# Altium footprint library LegacySMD-SODxx.PcbLib: 23 footprints (part 1 of 2)
Each footprint in its own frame and in the unit in brackets; x right, y up, seen from the top. Pads: shape width x height; smd on the part's side, far side on the other; paste and mask are expansions set on the pad; w line width, h text height; cw(c..) or ccw(c..) is an arc to the next point about the centre after c.
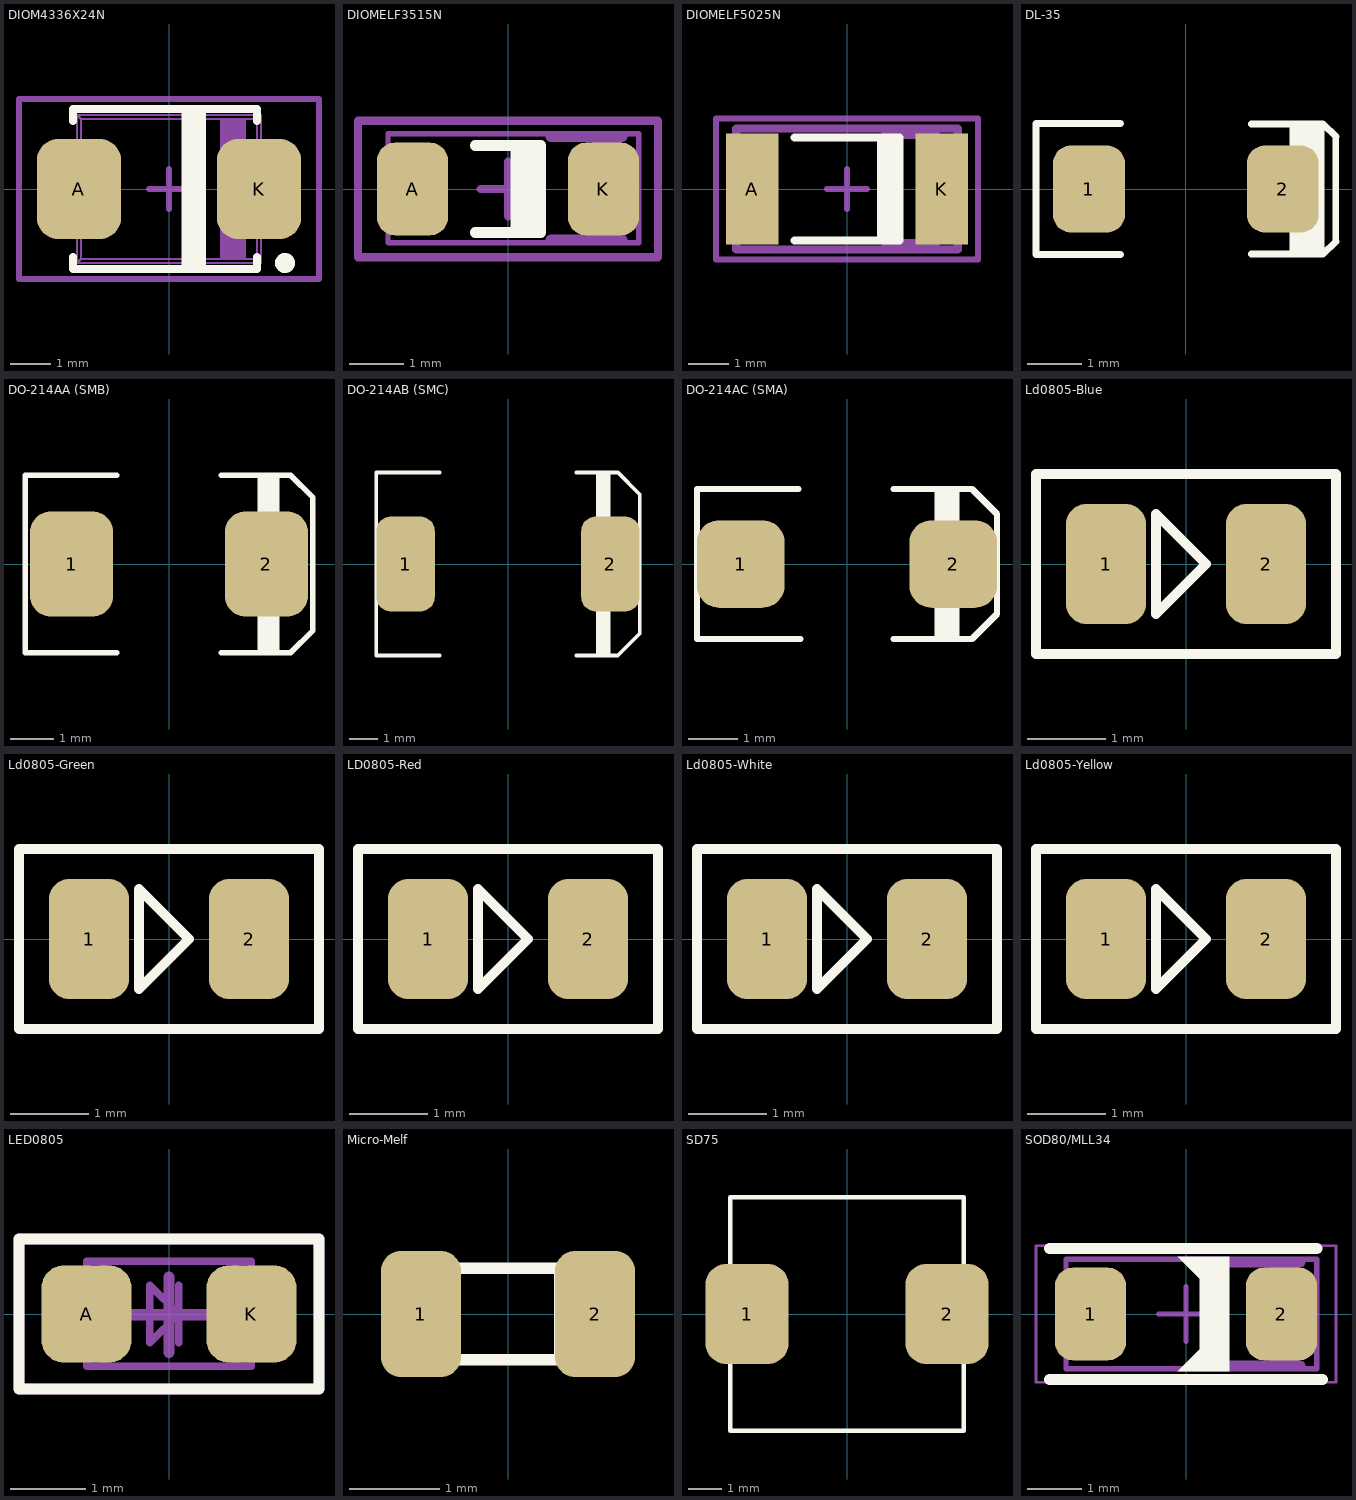
[diagram p0: the footprints below, top view; thin cyan lines are the x and y axes]

## DIOM4336X24N [mm] "Molded Diode, 2-Leads, Body 4,33x3,65mm, IPC Medium Density"
height 2.4
pads (2):
  rrect50% 2.1x2.5 smd: A(-2.25,0) K(2.25,0)
Top Overlay:
  circle w0.25: c2.9,-1.85 r0.125
  region: 0.93,2 0.311,2 0.311,-2 0.93,-2
  lines w0.2: -2.4,-1.7 -2.4,-2 2.2,-2 2.2,-1.7 ; -2.4,1.7 -2.4,2 2.2,2 2.2,1.7
Mechanical 3:
  text ".Designator / .Comment" at 2.159,0.762 h1.02
Mechanical 13:
  rectangle: 1.3,-1.75 1.9,1.75
  lines w0.05: -2.4,-1 -2.4,1 ; -2.4,-1 -2.3,-1 ; -2.4,-1 -2.65,-1 -2.65,1 -2.4,1 ; -2.4,1 -2.3,1 ; -2.3,-1.85 -2.3,-1 ; -2.3,-1.85 -2.2,-1.75 ; -2.3,-1.85 2.3,-1.85 ; -2.3,-1 -2.3,1 ; -2.3,1 -2.3,1.85 ; -2.3,1.85 2.3,1.85 ; -2.3,1.85 -2.2,1.75 ; -2.2,-1.75 -2.2,1.75 ; -2.2,-1.75 1.3,-1.75 ; -2.2,1.75 1.3,1.75 ; 1.3,-1.75 1.3,1.75 ; 1.3,-1.75 1.9,-1.75 ; 1.3,1.75 1.9,1.75 ; 1.9,-1.75 2.2,-1.75 ; 1.9,-1.75 1.9,1.75 ; 1.9,1.75 2.2,1.75 ; 2.2,-1.75 2.2,1.75 ; 2.2,-1.75 2.3,-1.85 ; 2.2,1.75 2.3,1.85 ; 2.3,-1.85 2.3,-1 ; 2.3,-1 2.4,-1 ; 2.3,-1 2.3,1 ; 2.3,1 2.4,1 ; 2.3,1 2.3,1.85 ; 2.4,-1 2.4,1 ; 2.4,-1 2.65,-1 2.65,1 2.4,1
Mechanical 15:
  lines w0.15: -0.5,0 0.5,0 ; 0,-0.5 0,0.5 ; -3.75,-2.25 -3.75,2.25 3.75,2.25 3.75,-2.25 -3.75,-2.25
3D body "SMB (DO-214AA).STEP": height 2.2, standoff -0.05, extent -2.65,-1.85 2.65,1.85

## DIOMELF3515N [mm] "MELF Diode, 2-Leads, Body 3,50x1,45mm, IPC Medium Density"
height 1.6
pads (2):
  rrect50% 1.3x1.7 smd: A(-1.75,0) K(1.75,0)
Top Overlay:
  rectangle: 0.05,-0.8 0.6,0.8
  lines w0.2: -0.6,-0.8 0.6,-0.8 0.6,0.8 -0.6,0.8
Mechanical 3:
  text ".Designator / .Comment" at -2.6,-0.9 h1.2
Mechanical 13:
  rectangle: 1.538,-0.839 2.088,0.961
  lines w0.1: -2.2,-0.989 -2.2,1.011 2.4,1.011 2.4,-0.989 -2.2,-0.989
  lines w0.2: 0.788,-0.939 2.088,-0.939 ; 0.788,0.961 2.088,0.961
Mechanical 15:
  lines w0.15: -0.5,0 0.5,0 ; 0,-0.5 0,0.5 ; -2.75,-1.25 -2.75,1.25 2.75,1.25 2.75,-1.25 -2.75,-1.25
3D body "Minimelf.step": height 1.4, standoff 0, extent -1.75,-0.711 1.75,0.689

## DIOMELF5025N [mm] "MELF Diode, 2-Leads, Body 5,00x2,50mm, IPC Medium Density"
height 2.6
pads (2):
  rect 1.3x2.75 smd: A(-2.35,0) K(2.35,0)
Top Overlay:
  rectangle: 0.75,-1.275 1.3,1.275
  lines w0.2: -1.3,-1.275 1.3,-1.275 1.3,1.275 -1.3,1.275
Mechanical 3:
  text ".Designator / .Comment" at -2.159,-0.762 h1.02
Mechanical 13:
  rectangle: 1.75,-1.5 2.3,1.5
  region: 1.75,-1.25 1,-1.25 0.75,-1.5 1.75,-1.5
  region: 1.75,1.25 1,1.25 0.75,1.5 1.75,1.5
  lines w0.2: -2.75,-1.5 -2.75,1.5 2.75,1.5 2.75,-1.5 -2.75,-1.5
Mechanical 15:
  lines w0.15: -0.5,0 0.5,0 ; 0,-0.5 0,0.5 ; -3.25,-1.75 -3.25,1.75 3.25,1.75 3.25,-1.75 -3.25,-1.75
3D body "MELF.STEP": height 2.5, standoff 0, extent -2.384,-1.25 2.616,1.25

## DL-35 [mil] "Metal Electrode Face (MELF) Diode; Body 3.5 x 1.5 mm (LxDia)"
height 59.06
pads (2):
  rrect50% 52x63 smd: 1(-70,0) 2(70,0)
Top Overlay:
  rectangle: 75,-45 100,45
  lines w5: -47.24,-47.24 -108.27,-47.24 -108.27,47.24 -47.24,47.24 ; 47.24,-46.85 99.04,-46.85 108.46,-38.02 ; 47.24,46.85 99.04,46.85 108.46,38.02 ; 108.27,-38.02 108.27,38.02
3D body "Minimelf.step": height 55.12, standoff 0, extent -69.8,-27.56 68,27.56

## DO-214AA (SMB) [mil] "DO-214-AA/SMB; 2 C-Bend Leads; Body 5.3 x 3.6 mm, inc. leads (LxW)"
height 100
pads (2):
  rrect50% 75x95 smd: 1(-88,0) 2(88,0)
Top Overlay:
  rectangle: 80,-80 100,80
  lines w5: -47.24,-80 -130,-80 -130,80 -47.24,80 ; 47.24,-80 110,-80 130,-60 130,60 110,80 47.24,80
Mechanical 3:
  text ".Designator / .Comment" at -85.01,-30.01 h40
3D body "SMB (DO-214AA).STEP": height 86.65, standoff -1.97, extent -104.34,-72.84 104.32,72.83

## DO-214AB (SMC) [mil] "DO-214-AB/SMC; 2 C-Bend Leads; Body 7.9 x 5.9 mm, inc. leads (LxW)"
height 101.18
pads (2):
  rrect50% 80x130 smd: 1(-140,0) 2(140,0)
Top Overlay:
  rectangle: 120,-125 140,125
  lines w5: -93.5,-125 -180,-125 -180,125 -93.5,125 ; 93.5,-125 150,-125 180,-95 180,94.89 150.22,125 93.5,125
Mechanical 3:
  text ".Designator / .Comment" at -85,-29.86 h40
3D body "SMC (DO214AB).STEP": height 94.53, standoff -1.97, extent -153.55,-116 153.54,116.28

## DO-214AC (SMA) [mil] "DO-214-AC/SMA; 2 C-Bend Leads; Body 5 x 2.7 mm, inc. leads (LxW)"
height 96.06
pads (2):
  rrect50% 70x70 smd: 1(-85,0) 2(85,0)
Top Overlay:
  rectangle: 70,-60 90,60
  lines w5: -38.7,60 -120,60 -120,-60 -37.4,-60 ; 37.4,-60 100,-60 120,-40 120,40 100,60 37.4,60
Mechanical 3:
  text ".Designator / .Comment" at -85,-30 h40
3D body "SMA (DO-214AC).STEP": height 84.69, standoff -1.97, extent -98.42,-53.15 98.43,53.15

## Ld0805-Blue [mil]
pads (2):
  rrect50% 40x60 smd: 1(-40,0) 2(40,0)
Top Overlay:
  lines w5: -75,-45 75,-45 75,45 -75,45 -75,-45 ; -15,-25 -15,25 10,0 -15,-25
3D body "Led 0805-Blue.STEP": height 43.31, standoff 0, extent -39.76,-24.96 39.77,24.25

## Ld0805-Green [mil]
pads (2):
  rrect50% 40x60 smd: 1(-40,0) 2(40,0)
Top Overlay:
  lines w5: -75,-45 75,-45 75,45 -75,45 -75,-45 ; -15,-25 -15,25 10,0 -15,-25
3D body "Led 0805-Green.STEP": height 43.31, standoff 0, extent -39.76,-24.96 39.77,24.25

## LD0805-Red [mil]
pads (2):
  rrect50% 40x60 smd: 1(-40,0) 2(40,0)
Top Overlay:
  lines w5: -75,-45 -75,45 75,45 75,-45 -75,-45 ; -15,-25 10,0 -15,25 -15,-25
3D body "Led 0805-Red.STEP": height 43.31, standoff 0, extent -39.76,-24.96 39.77,24.25

## Ld0805-White [mil]
pads (2):
  rrect50% 40x60 smd: 1(-40,0) 2(40,0)
Top Overlay:
  lines w5: -75,-45 75,-45 75,45 -75,45 -75,-45 ; -15,-25 -15,25 10,0 -15,-25
3D body "Led 0805-White.STEP": height 43.31, standoff 0, extent -39.76,-24.96 39.77,24.25

## Ld0805-Yellow [mil]
pads (2):
  rrect50% 40x60 smd: 1(-40,0) 2(40,0)
Top Overlay:
  lines w5: -75,-45 -75,45 75,45 75,-45 -75,-45 ; -15,-25 10,0 -15,25 -15,-25
3D body "Led 0805-Yellow.STEP": height 43.31, standoff 0, extent -39.76,-24.96 39.77,24.25

## LED0805 [mm] "Chip Resistor, 2-Leads, Body 2,00x1,25mm, IPC Medium Density"
height 0.7
pads (2):
  rrect50% 1.2x1.3 smd: A(-1.1,0) K(1.1,0)
Top Overlay:
  lines w0.15: -2,-1 2,-1 2,1 -2,1 -2,-1
Mechanical 3:
  text ".Designator / .Comment" at -1.25,-0.5 h0.6
Mechanical 13:
  lines w0.1: -0.871,-0.7 -0.871,0.7 ; 0.127,-0.381 0.127,0.381 ; 0.881,-0.7 0.881,0.7 ; -1.1,-0.7 1.1,-0.7 1.1,0.7 -1.1,0.7 -1.1,-0.7 ; -0.254,-0.381 0.127,0 -0.254,0.381 -0.254,0.254 -0.254,-0.381
Mechanical 15:
  lines w0.15: -0.5,-0.009 0.5,-0.009 ; 0,-0.509 0,0.491 ; -2,-1 2,-1 2,1 -2,1 -2,-1
3D body "Led 0805-Green.STEP": height 1.1, standoff 0, extent -1.01,-0.634 1.01,0.616

## Micro-Melf [mil]
pads (2):
  rrect50% 35x55 smd: 1(-38,0) 2(38,0)
Top Overlay:
  rectangle: 20,-20 30,20
  lines w5: -40,-20 -40,20 40,20 40,-20 -40,-20

## SD75 [mm]
pads (2):
  rrect50% 2.5x3 smd: 1(-3,0) 2(3,0)
Top Overlay:
  lines w0.127: -3.5,-3.5 3.5,-3.5 3.5,3.5 -3.5,3.5 -3.5,-3.5

## SOD80/MLL34 [mm]
pads (2):
  rrect50% 1.3x1.7 smd: 1(-1.75,0) 2(1.75,0)
Top Overlay:
  rectangle: 0.25,-1.05 0.8,1.05
  region: -0.15,-1.05 0.25,-0.65 0.25,-1.05
  region: -0.15,1.05 0.25,0.65 0.25,1.05
  lines w0.2: -2.5,-1.2 -0.5,-1.2 0.9,-1.2 1.2,-1.2 2.3,-1.2 2.5,-1.2 ; -2.5,1.2 2.4,1.2 ; 0.5,-0.75 0.5,0.75
Mechanical 3:
  text ".Designator / .Comment" at -2.5,-0.9 h1.2
Mechanical 13:
  rectangle: 1.538,-0.85 2.088,0.95
  lines w0.1: -2.2,-1 2.4,-1 2.4,1 -2.2,1 -2.2,-1
  lines w0.2: 0.788,-0.95 2.088,-0.95 ; 0.788,0.95 2.088,0.95
Mechanical 15:
  lines w0.05: -2.75,-1.25 2.75,-1.25 2.75,1.25 -2.75,1.25 -2.75,-1.25
  lines w0.1: -0.5,0 0.5,0 ; 0,-0.5 0,0.5
3D body "Minimelf.step": height 1.4, standoff 0, extent -1.75,-0.711 1.75,0.689